# EAGLE library part MYSMD2_FT232RL (library Motor controller v8)
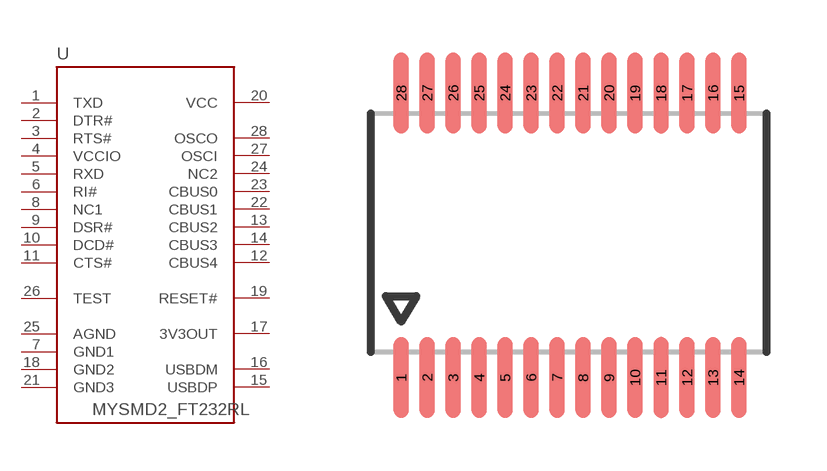
[diagram p2: symbol with the pads of MYSMD2_SSOP28; footprint MYSMD2_SSOP28]

Designator prefix U

## MYSMD2_FT232RL  [MYSMD2_SSOP28]
1  TXD  out
2  DTR#  out
3  RTS#  out
4  VCCIO  pwr
5  RXD  in
6  RI#  in
7  GND1  pwr
8  NC1  nc
9  DSR#  in
10  DCD#  in
11  CTS#  in
12  CBUS4
13  CBUS2
14  CBUS3
15  USBDP
16  USBDM
17  3V3OUT  pwr
18  GND2  pwr
19  RESET#  in
20  VCC  pwr
21  GND3  pwr
22  CBUS1
23  CBUS0
24  NC2  nc
25  AGND  pwr
26  TEST  in
27  OSCI  in
28  OSCO  out

## Footprint MYSMD2_SSOP28 (pad centres in mm)
smd 0.381 x 2.032: 1 0,0; 2 0.65,0; 3 1.3,0; 4 1.95,0; 5 2.6,0; 6 3.25,0; 7 3.9,0; 8 4.55,0; 9 5.2,0; 10 5.85,0; 11 6.5,0; 12 7.15,0; 13 7.8,0; 14 8.45,0; 15 8.45,7.112; 16 7.8,7.112; 17 7.15,7.112; 18 6.5,7.112; 19 5.85,7.112; 20 5.2,7.112; 21 4.55,7.112; 22 3.9,7.112; 23 3.25,7.112; 24 2.6,7.112; 25 1.95,7.112; 26 1.3,7.112; 27 0.65,7.112; 28 0,7.112